# Altium footprint library SOT-666.PcbLib: 1 footprints
Each footprint in its own frame and in the unit in brackets; x right, y up, seen from the top. Pads: shape width x height; smd on the part's side, far side on the other; paste and mask are expansions set on the pad; w line width, h text height; cw(c..) or ccw(c..) is an arc to the next point about the centre after c.
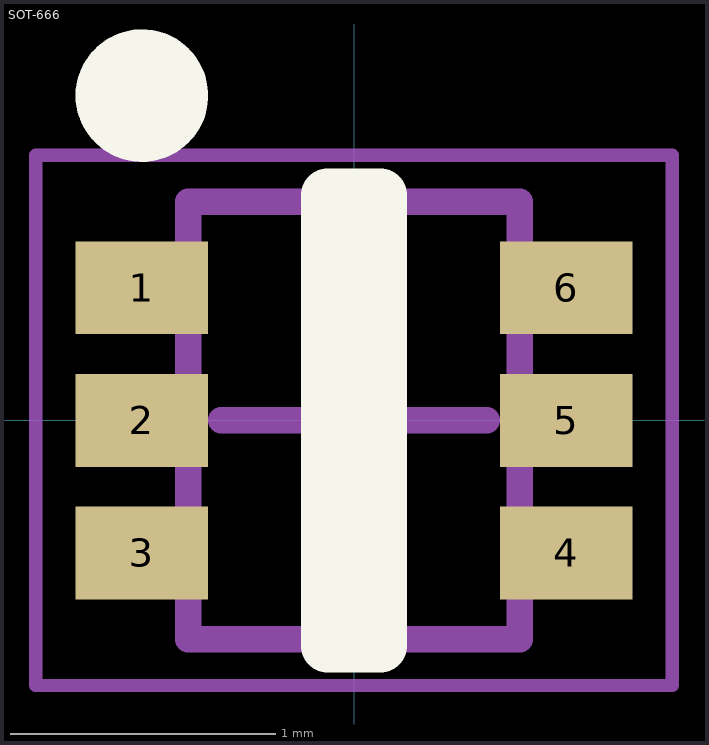
[diagram p0: the footprint, top view; thin cyan lines are the x and y axes]

## SOT-666 [mm]
height 0.6
pads (6):
  rect 0.5x0.35 smd: 1(-0.8,0.5) 2(-0.8,0) 3(-0.8,-0.5) 4(0.8,-0.5) 5(0.8,0) 6(0.8,0.5)
Top Overlay:
  circle w0.25: c-0.8,1.225 r0.125
  lines w0.2: -0.1,-0.85 0.1,-0.85 0.1,0.85 -0.1,0.85 -0.1,-0.85
Mechanical 13:
  lines w0.1: -0.625,-0.825 -0.625,0.825 0.625,0.825 0.625,-0.825 -0.625,-0.825
Mechanical 15:
  lines w0.05: -1.2,-1 -1.2,1 1.2,1 1.2,-1 -1.2,-1
  lines w0.1: -0.5,0 0.5,0 ; 0,-0.5 0,0.5
3D body: height 0.6, standoff 0, extent -0.625,-0.825 0.625,0.825